# Altium schematic symbol library Resistance.SchLib: 3 symbols
Pins are listed as number, name and electrical type; pins without a type are passive.

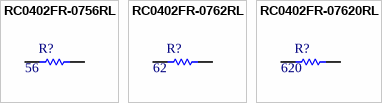
[diagram p0: symbols RC0402FR-0756RL to RC0402FR-07620RL]

## RC0402FR-0756RL
designator R?  value 56  (hidden comment: RC0402FR-0756RL)
RES SMD 56 OHM 1% 1/16W 0402; Manufacturer: Yageo; Power: 63mW; Vmax: 50V; Type: Thick Film; ComponentLink1Description: Manufacturer; ComponentLink1URL: http://www.yageo.com/NewPortal/_en/index.jsp; ComponentLink2Description: Datasheet; ComponentLink2URL: http://www.farnell.com/datasheets/2167052.pdf; Manufacturer Part Number: RC0402FR-0756RL; Supplier 1: Farnell; Supplier Part Number 1: 9239081; Precision: ±1%
footprint RESC1005X04N (Chip Resistor, 2-Leads, Body 1,1x0,5mm, IPC Medium Density)
pins: 1, 2

## RC0402FR-0762RL
designator R?  value 62  (hidden comment: RC0402FR-0762RL)
RES SMD 62 OHM 1% 1/16W 0402; Manufacturer: Yageo; Power: 63mW; Vmax: 50V; Type: Thick Film; ComponentLink1Description: Manufacturer; ComponentLink1URL: http://www.yageo.com/NewPortal/_en/index.jsp; ComponentLink2Description: Datasheet; ComponentLink2URL: http://www.farnell.com/datasheets/2167052.pdf; Manufacturer Part Number: RC0402FR-0762RL; Supplier 1: Farnell; Supplier Part Number 1: 1458813; Precision: ±1%
footprint RESC1005X04N (Chip Resistor, 2-Leads, Body 1,1x0,5mm, IPC Medium Density)
pins: 1, 2

## RC0402FR-07620RL
designator R?  value 620  (hidden comment: RC0402FR-07620RL)
RES SMD 620 OHM 1% 1/16W 0402; Manufacturer: Yageo; Power: 63mW; Vmax: 50V; Type: Thick Film; ComponentLink1Description: Manufacturer; ComponentLink1URL: http://www.yageo.com/NewPortal/_en/index.jsp; ComponentLink2Description: Datasheet; ComponentLink2URL: http://www.farnell.com/datasheets/2167052.pdf; Manufacturer Part Number: RC0402FR-07620RL; Precision: ±1%; Supplier 1: Farnell; Supplier Part Number 1: 1458815
footprint RESC1005X04N (Chip Resistor, 2-Leads, Body 1,1x0,5mm, IPC Medium Density)
pins: 1, 2